# EAGLE library part 22-23-2061 (library USBJoy)
.100" (2.54mm) Center Header - 6 Pin
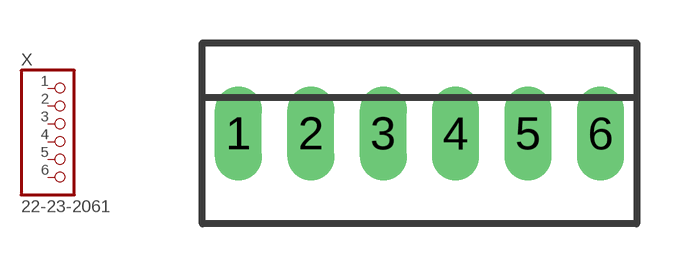
[diagram p2: symbol with the pads of 22-23-2061; footprint 22-23-2061]

Designator prefix X

## 22-23-2061  [22-23-2061]
1  1  pas
2  2  pas
3  3  pas
4  4  pas
5  5  pas
6  6  pas

## Footprint 22-23-2061 (pad centres in mm)
.100" (2.54mm) Center Header - 6 Pin
drill 1.1 long: 1 -6.35,0; 2 -3.81,0; 3 -1.27,0; 4 1.27,0; 5 3.81,0; 6 6.35,0